# EAGLE library part IPOD-DOCK-CONNECTOR-30P (library Connector)
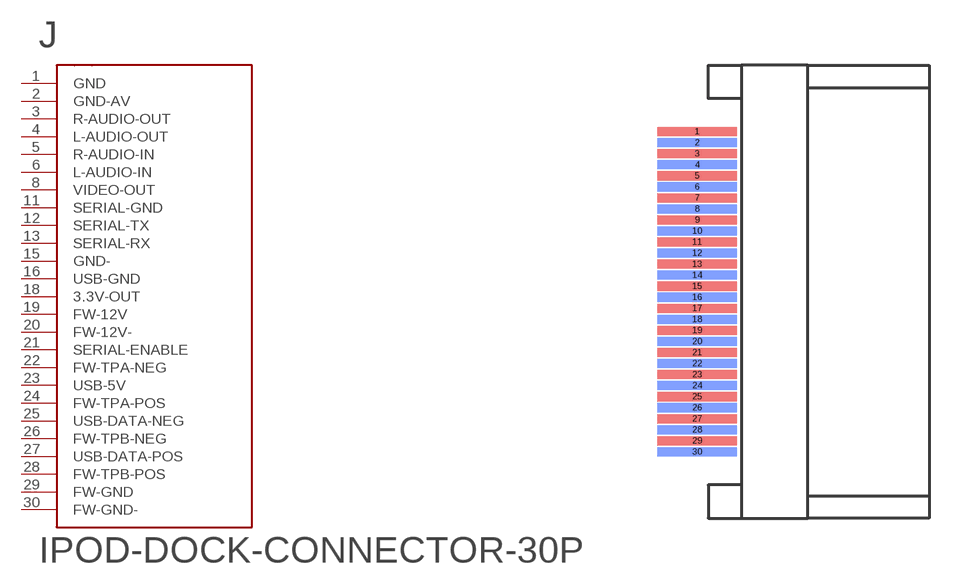
[diagram p25: symbol with the pads of 30P-1.0-SMD; footprint 30P-1.0-SMD]

Designator prefix J

## IPOD-DOCK-CONNECTOR-30P  [30P-1.0-SMD]
1  GND
2  GND-AV
3  R-AUDIO-OUT
4  L-AUDIO-OUT
5  R-AUDIO-IN
6  L-AUDIO-IN
8  VIDEO-OUT
11  SERIAL-GND
12  SERIAL-TX
13  SERIAL-RX
15  GND-
16  USB-GND
18  3.3V-OUT
19  FW-12V
20  FW-12V-
21  SERIAL-ENABLE
22  FW-TPA-NEG
23  USB-5V
24  FW-TPA-POS
25  USB-DATA-NEG
26  FW-TPB-NEG
27  USB-DATA-POS
28  FW-TPB-POS
29  FW-GND
30  FW-GND-

## Footprint 30P-1.0-SMD (pad centres in mm)
smd 3.556 x 0.406: 1 -2.108,7.201; 3 -2.108,6.21; 5 -2.108,5.22; 7 -2.108,4.229; 9 -2.108,3.239; 11 -2.108,2.248; 13 -2.108,1.257; 15 -2.108,0.267; 17 -2.108,-0.724; 19 -2.108,-1.714; 21 -2.108,-2.705; 23 -2.108,-3.696; 25 -2.108,-4.686; 27 -2.108,-5.677; 29 -2.108,-6.668
smd 3.556 x 0.406 bottom: 2 -2.108,6.706; 4 -2.108,5.715; 6 -2.108,4.724; 8 -2.108,3.734; 10 -2.108,2.743; 12 -2.108,1.753; 14 -2.108,0.762; 16 -2.108,-0.229; 18 -2.108,-1.219; 20 -2.108,-2.21; 22 -2.108,-3.2; 24 -2.108,-4.191; 26 -2.108,-5.182; 28 -2.108,-6.172; 30 -2.108,-7.163